# Altium footprint library PCB - MISC - QUARZ_7B.PCBLIB: 1 footprints
Each footprint in its own frame and in the unit in brackets; x right, y up, seen from the top. Pads: shape width x height; smd on the part's side, far side on the other; paste and mask are expansions set on the pad; w line width, h text height; cw(c..) or ccw(c..) is an arc to the next point about the centre after c.
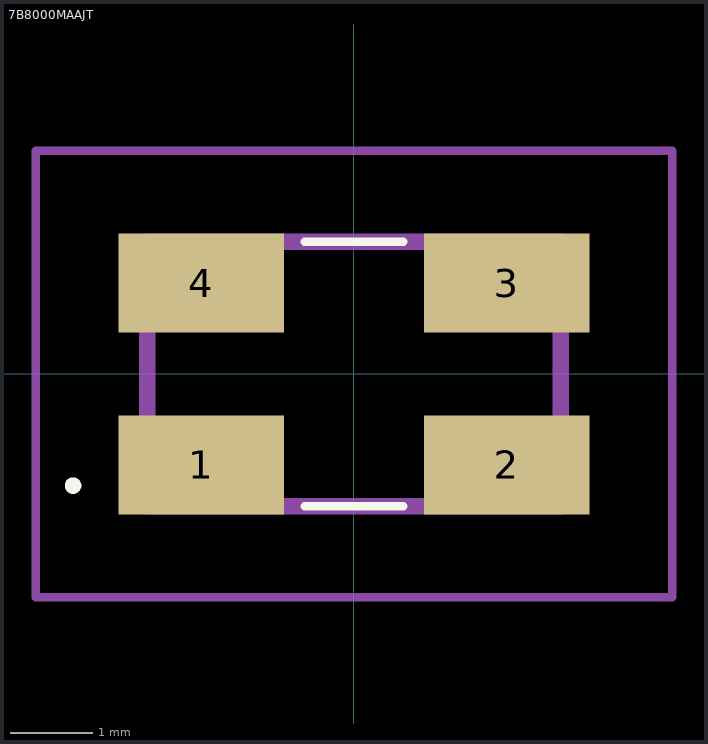
[diagram p0: the footprint, top view; thin cyan lines are the x and y axes]

## 7B8000MAAJT [mm]
pads (4):
  rect 2x1.2 smd: 1(-1.85,-1.1) 2(1.85,-1.1) 3(1.85,1.1) 4(-1.85,1.1)
Top Overlay:
  lines w0.1: -0.6,-1.6 0.6,-1.6 ; -0.6,1.6 0.6,1.6 ; -3.4,-1.4 cw(c-3.4,-1.35) -3.4,-1.3 cw(c-3.4,-1.35) -3.4,-1.4
Top Courtyard:
  lines w0.1: -3.85,-2.7 3.85,-2.7 3.85,2.7 -3.85,2.7 -3.85,-2.7
Top Designator:
  text ".Designator" at -2.692,2.176 h0.51
Top Value (Mech13):
  lines w0.2: -2.5,-1.6 -2.5,1.6 2.5,1.6 2.5,-1.6 -2.5,-1.6
3D body "7B-8.000MAAJ-T.stp": height 1.15, standoff 0, extent -2.73,-1.6 2.73,1.6